# Altium footprint library NSM2015.PcbLib: 1 footprints
Each footprint in its own frame and in the unit in brackets; x right, y up, seen from the top. Pads: shape width x height; smd on the part's side, far side on the other; paste and mask are expansions set on the pad; w line width, h text height; cw(c..) or ccw(c..) is an arc to the next point about the centre after c.
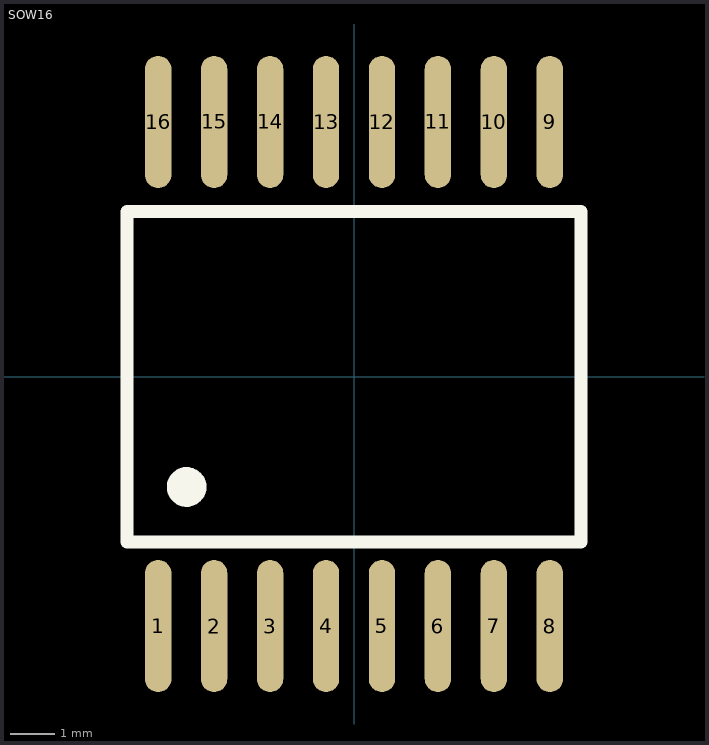
[diagram p0: the footprint, top view; thin cyan lines are the x and y axes]

## SOW16 [mm]
pads (16):
  oval 0.6x3 smd: 1(-4.445,-5.658) 2(-3.175,-5.658) 3(-1.905,-5.658) 4(-0.635,-5.658) 5(0.635,-5.658) 6(1.905,-5.658) 7(3.175,-5.658) 8(4.445,-5.658) 9(4.445,5.785) 10(3.175,5.785) 11(1.905,5.785) 12(0.635,5.785) 13(-0.635,5.785) 14(-1.905,5.785) 15(-3.175,5.785) 16(-4.445,5.785)
Top Overlay:
  circle w0.5: c-3.8,-2.5 r0.2
  lines w0.3: -5.15,-3.75 5.15,-3.75 5.15,3.75 -5.15,3.75 -5.15,-3.75